# Altium footprint library 2_to_1_NetTie_0.5mm.PcbLib: 1 footprints
Each footprint in its own frame and in the unit in brackets; x right, y up, seen from the top. Pads: shape width x height; smd on the part's side, far side on the other; paste and mask are expansions set on the pad; w line width, h text height; cw(c..) or ccw(c..) is an arc to the next point about the centre after c.
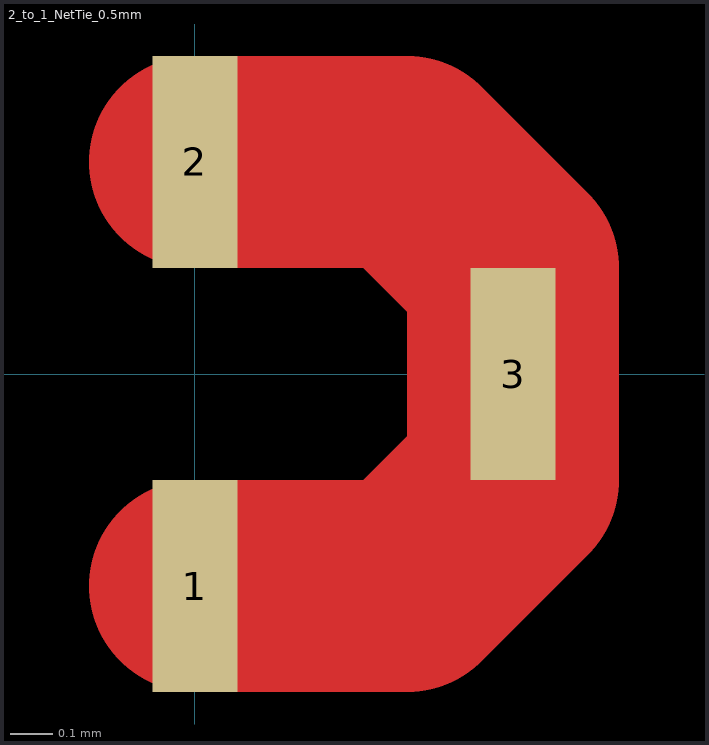
[diagram p0: the footprint, top view; thin cyan lines are the x and y axes]

## 2_to_1_NetTie_0.5mm [mm] "Net Tie with 0.5mm pad width"
pads (3):
  rect 0.2x0.5 smd mask+0.102: 1(0,-0.5) 3(0.75,0)
  rect 0.2x0.5 smd: 2(0,0.5)
Top Layer:
  lines w0.5: 0,-0.5 0.5,-0.5 0.75,-0.25 0.75,0.25 0.5,0.5 0,0.5